# Altium schematic symbol library SCH - MCU - ATMEGA - MICROCHIP AVR64DD20 QFN20.SchLib: 1 symbol
Pins are listed as number, name and electrical type; pins without a type are passive.

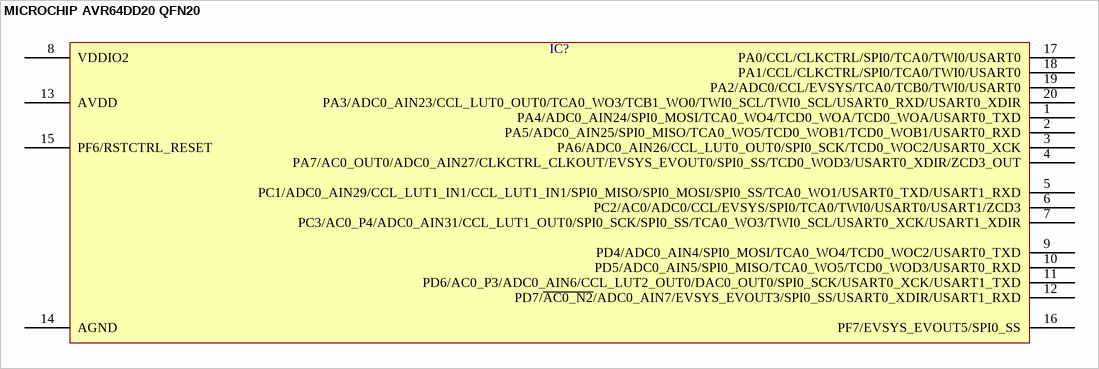
[diagram p0: symbol MICROCHIP AVR64DD20 QFN20]

## MICROCHIP AVR64DD20 QFN20
designator IC?  (value not drawn)
pins: 1 PA4/ADC0_AIN24/SPI0_MOSI/TCA0_WO4/TCD0_WOA/TCD0_WOA/USART0_TXD, 2 PA5/ADC0_AIN25/SPI0_MISO/TCA0_WO5/TCD0_WOB1/TCD0_WOB1/USART0_RXD, 3 PA6/ADC0_AIN26/CCL_LUT0_OUT0/SPI0_SCK/TCD0_WOC2/USART0_XCK, 4 PA7/AC0_OUT0/ADC0_AIN27/CLKCTRL_CLKOUT/EVSYS_EVOUT0/SPI0_SS/TCD0_WOD3/USART0_XDIR/ZCD3_OUT, 5 PC1/ADC0_AIN29/CCL_LUT1_IN1/CCL_LUT1_IN1/SPI0_MISO/SPI0_MOSI/SPI0_SS/TCA0_WO1/USART0_TXD/USART1_RXD, 6 PC2/AC0/ADC0/CCL/EVSYS/SPI0/TCA0/TWI0/USART0/USART1/ZCD3, 7 PC3/AC0_P4/ADC0_AIN31/CCL_LUT1_OUT0/SPI0_SCK/SPI0_SS/TCA0_WO3/TWI0_SCL/USART0_XCK/USART1_XDIR, 8 VDDIO2, 9 PD4/ADC0_AIN4/SPI0_MOSI/TCA0_WO4/TCD0_WOC2/USART0_TXD, 10 PD5/ADC0_AIN5/SPI0_MISO/TCA0_WO5/TCD0_WOD3/USART0_RXD, 11 PD6/AC0_P3/ADC0_AIN6/CCL_LUT2_OUT0/DAC0_OUT0/SPI0_SCK/USART0_XCK/USART1_TXD, 12 PD7/~{AC0_N2}/ADC0_AIN7/EVSYS_EVOUT3/SPI0_SS/USART0_XDIR/USART1_RXD, 13 AVDD, 14 AGND, 15 PF6/RSTCTRL_RESET, 16 PF7/EVSYS_EVOUT5/SPI0_SS, 17 PA0/CCL/CLKCTRL/SPI0/TCA0/TWI0/USART0, 18 PA1/CCL/CLKCTRL/SPI0/TCA0/TWI0/USART0, 19 PA2/ADC0/CCL/EVSYS/TCA0/TCB0/TWI0/USART0, 20 PA3/ADC0_AIN23/CCL_LUT0_OUT0/TCA0_WO3/TCB1_WO0/TWI0_SCL/TWI0_SCL/USART0_RXD/USART0_XDIR